# Altium footprint library Semi Conductor.PcbLib: 63 footprints (part 3 of 4)
Each footprint in its own frame and in the unit in brackets; x right, y up, seen from the top. Pads: shape width x height; smd on the part's side, far side on the other; paste and mask are expansions set on the pad; w line width, h text height; cw(c..) or ccw(c..) is an arc to the next point about the centre after c.
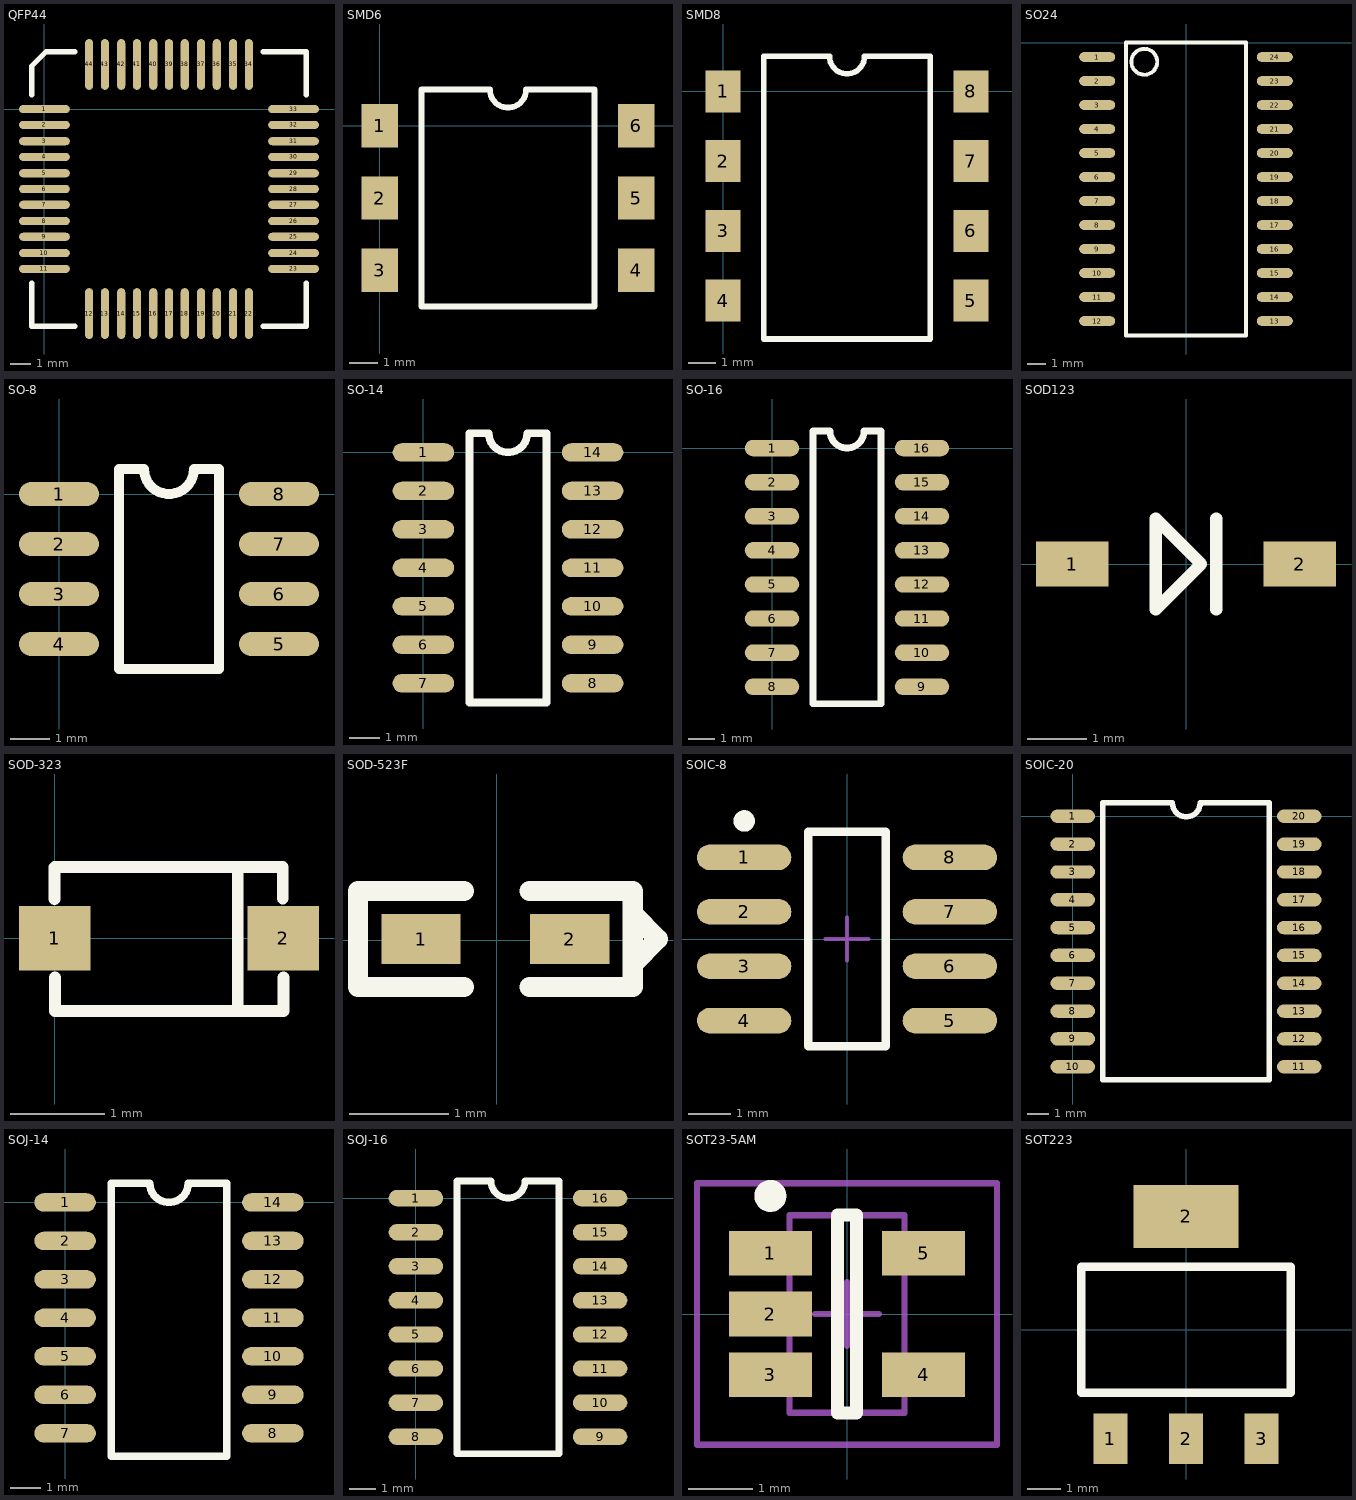
[diagram p2: the footprints below, top view; thin cyan lines are the x and y axes]

## QFP44 [mil]
height 125
pads (44):
  oval 100x16 smd: 1(0,0) 2(0,-31) 3(0,-63) 4(0,-94) 5(0,-126) 6(0,-157) 7(0,-188) 8(0,-220) 9(0,-251) 10(0,-283) 11(0,-314) 23(490,-314) 24(490,-283) 25(490,-251) 26(490,-220) 27(490,-188) 28(490,-157) 29(490,-126) 30(490,-94) 31(490,-63) 32(490,-31) 33(490,0)
  oval 16x100 smd: 12(88,-402) 13(119,-402) 14(151,-402) 15(182,-402) 16(214,-402) 17(245,-402) 18(276,-402) 19(308,-402) 20(339,-402) 21(371,-402) 22(402,-402) 34(402,88) 35(371,88) 36(339,88) 37(308,88) 38(276,88) 39(245,88) 40(214,88) 41(182,88) 42(151,88) 43(119,88) 44(88,88)
TopOverlay:
  lines w10: -25,-342 -25,-427 60,-427 ; -25,28 -25,85 3,113 60,113 ; 430,-427 515,-427 515,-342 ; 430,113 515,113 515,28

## SMD6 [mil]
pads (6):
  rect 50x60 smd: 1(0,0) 2(0,-100) 3(0,-200) 4(355,-200) 5(355,-100) 6(355,0)
TopOverlay:
  lines w8: 58,-250 58,50 152.5,50 ccw(c177.5,50) 202.5,50 297,50 297,-250 58,-250

## SMD8 [mil]
pads (8):
  rect 50x60 smd: 1(0,0) 2(0,-100) 3(0,-200) 4(0,-300) 5(355,-300) 6(355,-200) 7(355,-100) 8(355,0)
TopOverlay:
  lines w8: 58,-355 58,50 152.5,50 ccw(c177.5,50) 202.5,50 297,50 297,-355 ; 60,-355 295,-355

## SO24 [mil] "SO24"
height 100
pads (24):
  oval 75x20 smd: 1(-185,-30) 2(-185,-80) 3(-185,-130) 4(-185,-180) 5(-185,-230) 6(-185,-280) 7(-185,-330) 8(-185,-380) 9(-185,-430) 10(-185,-480) 11(-185,-530) 12(-185,-580) 13(185,-580) 14(185,-530) 15(185,-480) 16(185,-430) 17(185,-380) 18(185,-330) 19(185,-280) 20(185,-230) 21(185,-180) 22(185,-130) 23(185,-80) 24(185,-30)
TopOverlay:
  circle w8: c-86.93,-40 r26.93
  lines w8: -125,-610 -125,0 125,0 125,-610 -125,-610

## SO-8 [mil]
pads (8):
  oval 80x24 smd: 1(0,0) 2(0,-50) 3(0,-100) 4(0,-150) 5(220,-150) 6(220,-100) 7(220,-50) 8(220,0)
TopOverlay:
  lines w10: 60,-175 60,25 85,25 ccw(c110,25) 135,25 160,25 160,-175 60,-175
3D body: height 74.5, standoff -0.39, extent -14.69,-173.43 234.87,23.57

## SO-14 [mil]
pads (14):
  oval 80x24 smd: 1(0,0) 2(0,-50) 3(0,-100) 4(0,-150) 5(0,-200) 6(0,-250) 7(0,-300) 8(220,-300) 9(220,-250) 10(220,-200) 11(220,-150) 12(220,-100) 13(220,-50) 14(220,0)
TopOverlay:
  lines w10: 60,-325 160,-325 160,25 135,25 cw(c110,25) 85,25 60,25 60,-325

## SO-16 [mil]
pads (16):
  oval 80x24 smd: 1(0,0) 2(0,-50) 3(0,-100) 4(0,-150) 5(0,-200) 6(0,-250) 7(0,-300) 8(0,-350) 9(220,-350) 10(220,-300) 11(220,-250) 12(220,-200) 13(220,-150) 14(220,-100) 15(220,-50) 16(220,0)
TopOverlay:
  lines w10: 60,-375 60,25 85,25 ccw(c110,25) 135,25 160,25 160,-375 60,-375

## SOD123 [mil] "Diode SMD"
height 53
pads (2):
  rect 48x30 smd: 1(-75,0) 2(75,0)
TopOverlay:
  lines w8: 20,-30 20,30 ; -20,-30 -20,0 -20,30 10,0 -20,-30

## SOD-323 [mil]
height 45
pads (2):
  rect 30x27 smd: 1(0,0) 2(96,0)
TopOverlay:
  lines w5: -0.01,16.56 -0.01,29.87 0.03,29.91 95.79,29.91 95.79,16.78 ; 0.11,-16.46 0.11,-30.44 96.01,-30.44 96.01,-16.46 ; 76.87,-30.44 76.87,29.91
3D body: height 43.5, standoff 0, extent -3.59,-26.66 98.77,26.49

## SOD-523F [mm]
pads (2):
  rect 0.8x0.5 smd: 1(-0.762,0.013) 2(0.737,0.013)
TopOverlay:
  lines w0.203: -0.33,-0.47 -1.397,-0.47 -1.397,0.495 -0.33,0.495 ; 0.33,-0.47 1.372,-0.47 1.372,0.495 0.33,0.495 ; 1.372,-0.241 1.626,0.013 1.372,0.267
3D body: height 0.71, standoff 0, extent -0.864,-0.445 0.838,0.445

## SOIC-8 [mm] "SOIC, 8-Leads, Body 5.0x5.8mm (max), Pitch 1.27mm, IPC Medium Density"
height 1.35
pads (8):
  oval 2.2x0.6 smd: 1(-2.4,1.905) 2(-2.4,0.635) 3(-2.4,-0.635) 4(-2.4,-1.905) 5(2.4,-1.905) 6(2.4,-0.635) 7(2.4,0.635) 8(2.4,1.905)
TopOverlay:
  circle w0.25: c-2.4,2.755 r0.125
  lines w0.2: -0.9,-2.5 0.9,-2.5 0.9,2.5 -0.9,2.5 -0.9,-2.5
Mechanical15:
  lines w0.1: -0.5,0 0.5,0 ; 0,-0.5 0,0.5
3D body: height 1.35, standoff 0.1, extent -1.168,-2.489 1.168,2.515

## SOIC-20 [mil]
pads (20):
  oval 80x24 smd: 1(0,0) 2(0,-50) 3(0,-100) 4(0,-150) 5(0,-200) 6(0,-250) 7(0,-300) 8(0,-350) 9(0,-400) 10(0,-450) 11(407,-450) 12(407,-400) 13(407,-350) 14(407,-300) 15(407,-250) 16(407,-200) 17(407,-150) 18(407,-100) 19(407,-50) 20(407,0)
TopOverlay:
  lines w10: 54,-473 54,24 179,24 ccw(c204,24) 229,24 353,24 353,-473 54,-473
3D body: height 102.36, standoff 0, extent -1.72,-473.06 407.72,23

## SOJ-14 [mil]
height 78
pads (14):
  oval 80x24 smd: 1(0,0) 2(0,-50) 3(0,-100) 4(0,-150) 5(0,-200) 6(0,-250) 7(0,-300) 8(270,-300) 9(270,-250) 10(270,-200) 11(270,-150) 12(270,-100) 13(270,-50) 14(270,0)
TopOverlay:
  lines w10: 60,-330 210,-330 210,25 160,25 cw(c135,25) 110,25 60,25 60,-330
3D body: height 69, standoff 0, extent 13,-324 257,20

## SOJ-16 [mil]
pads (16):
  oval 80x24 smd: 1(0,0) 2(0,-50) 3(0,-100) 4(0,-150) 5(0,-200) 6(0,-250) 7(0,-300) 8(0,-350) 9(270,-350) 10(270,-300) 11(270,-250) 12(270,-200) 13(270,-150) 14(270,-100) 15(270,-50) 16(270,0)
TopOverlay:
  lines w10: 60,-375 60,25 110,25 ccw(c135,25) 160,25 210,25 210,-375 60,-375

## SOT23-5AM [mm] "SOT23, 5-Leads, Body 2.9x1.7mm, Pitch 0.95mm, Lead Span 2.8mm, IPC Low Density"
height 1.45
pads (5):
  rect 1.3x0.7 smd: 1(-1.2,0.95) 2(-1.2,0) 3(-1.2,-0.95) 4(1.2,-0.95) 5(1.2,0.95)
TopOverlay:
  circle w0.25: c-1.2,1.85 r0.125
  lines w0.2: -0.15,-1.55 -0.15,1.55 0.15,1.55 0.15,-1.55 -0.15,-1.55
Mechanical13:
  lines w0.1: -0.9,-1.55 0.9,-1.55 0.9,1.55 -0.9,1.55 -0.9,-1.55
Mechanical15:
  lines w0.1: -0.5,0 0.5,0 ; 0,-0.5 0,0.5 ; -2.35,-2.05 2.35,-2.05 2.35,2.05 -2.35,2.05 -2.35,-2.05
3D body: height 1.45, standoff 0, extent -0.9,-1.55 0.9,1.55

## SOT223 [mil]
height 65
pads (4):
  rect 40x60 smd: 1(-90,-130) 2(0,-130) 3(90,-130)
  rect 125x75 smd: 2(0,135)
TopOverlay:
  lines w10: -125,-75 -125,75 125,75 125,-75 -125,-75
3D body: height 63.59, standoff -2.35, extent -126.58,-121.67 129.32,151.25